# Altium footprint library EMG.PcbLib: 7 footprints
Each footprint in its own frame and in the unit in brackets; x right, y up, seen from the top. Pads: shape width x height; smd on the part's side, far side on the other; paste and mask are expansions set on the pad; w line width, h text height; cw(c..) or ccw(c..) is an arc to the next point about the centre after c.
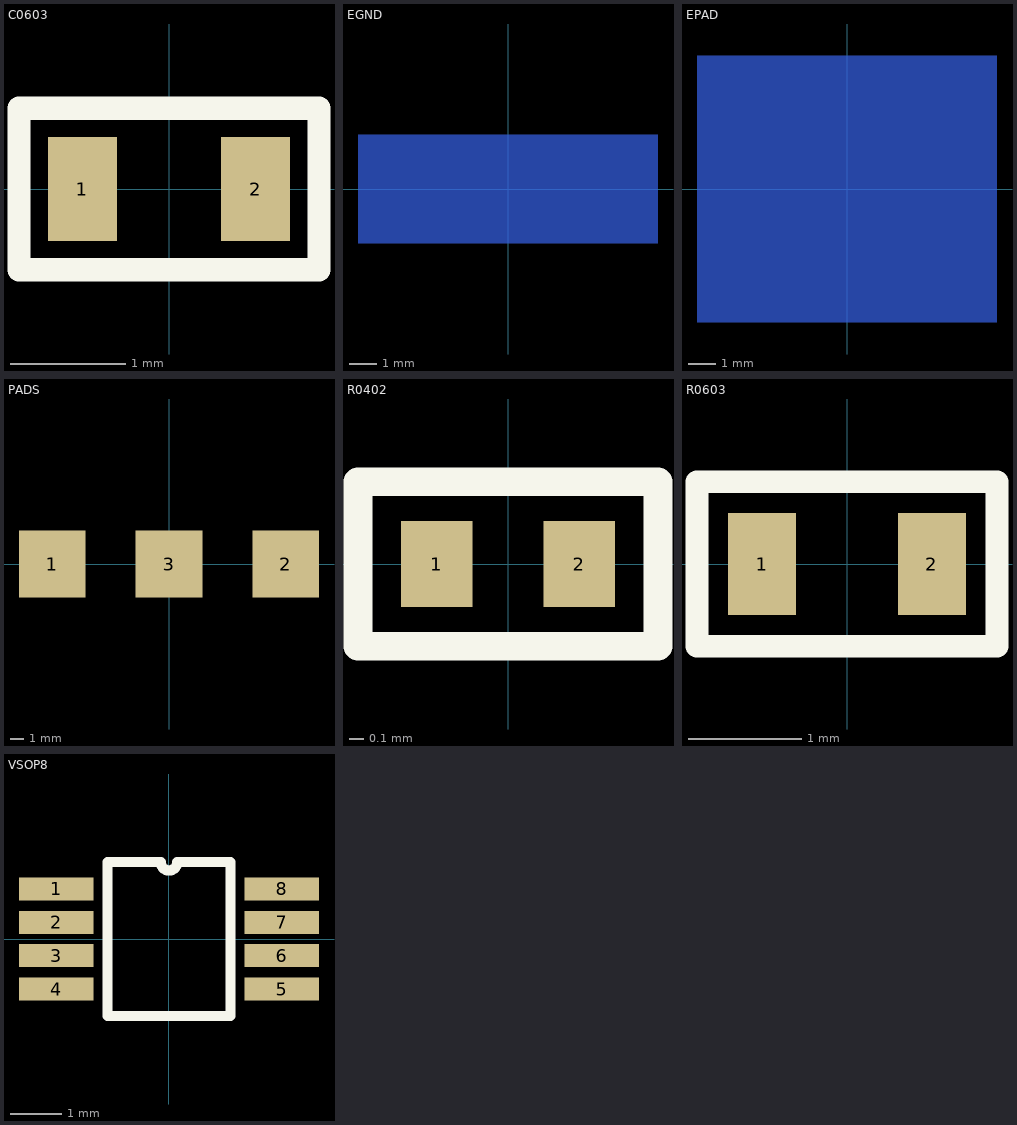
[diagram p0: the footprints below, top view; thin cyan lines are the x and y axes]

## C0603 [mm]
pads (2):
  rect 0.6x0.9 smd: 1(-0.75,0) 2(0.75,0)
Top Overlay:
  lines w0.2: -1.3,-0.7 -1.3,0.7 1.3,0.7 1.3,-0.7 -1.3,-0.7

## EGND [mm]
Bottom Layer:
  rectangle: -5.5,-2 5.5,2

## EPAD [mm]
Bottom Layer:
  rectangle: -5.5,-4.9 5.5,4.9

## PADS [mm]
pads (3):
  rect 5x5 smd: 1(-8.75,0) 2(8.75,0) 3(0,0)

## R0402 [mm]
pads (2):
  rect 0.5x0.6 smd: 1(-0.5,0) 2(0.5,0)
Top Overlay:
  lines w0.2: -1.05,-0.575 1.05,-0.575 1.05,0.575 -1.05,0.575 -1.05,-0.575

## R0603 [mm]
pads (2):
  rect 0.6x0.9 smd: 1(-0.75,0) 2(0.75,0)
Top Overlay:
  lines w0.2: -1.325,-0.725 -1.325,0.725 1.325,0.725 1.325,-0.725 -1.325,-0.725

## VSOP8 [mm]
pads (8):
  rect 1.45x0.45 smd mask+0.05: 1(-2.2,0.975) 2(-2.2,0.325) 3(-2.2,-0.325) 4(-2.2,-0.975) 5(2.2,-0.975) 6(2.2,-0.325) 7(2.2,0.325) 8(2.2,0.975)
Top Overlay:
  lines w0.2: -1.2,-1.5 -1.2,1.5 -0.162,1.5 ccw(c0,1.5) 0.162,1.5 1.2,1.5 1.2,-1.5 -1.2,-1.5